# Altium footprint library Voltage Regulator.PcbLib: 34 footprints (part 1 of 3)
Each footprint in its own frame and in the unit in brackets; x right, y up, seen from the top. Pads: shape width x height; smd on the part's side, far side on the other; paste and mask are expansions set on the pad; w line width, h text height; cw(c..) or ccw(c..) is an arc to the next point about the centre after c.
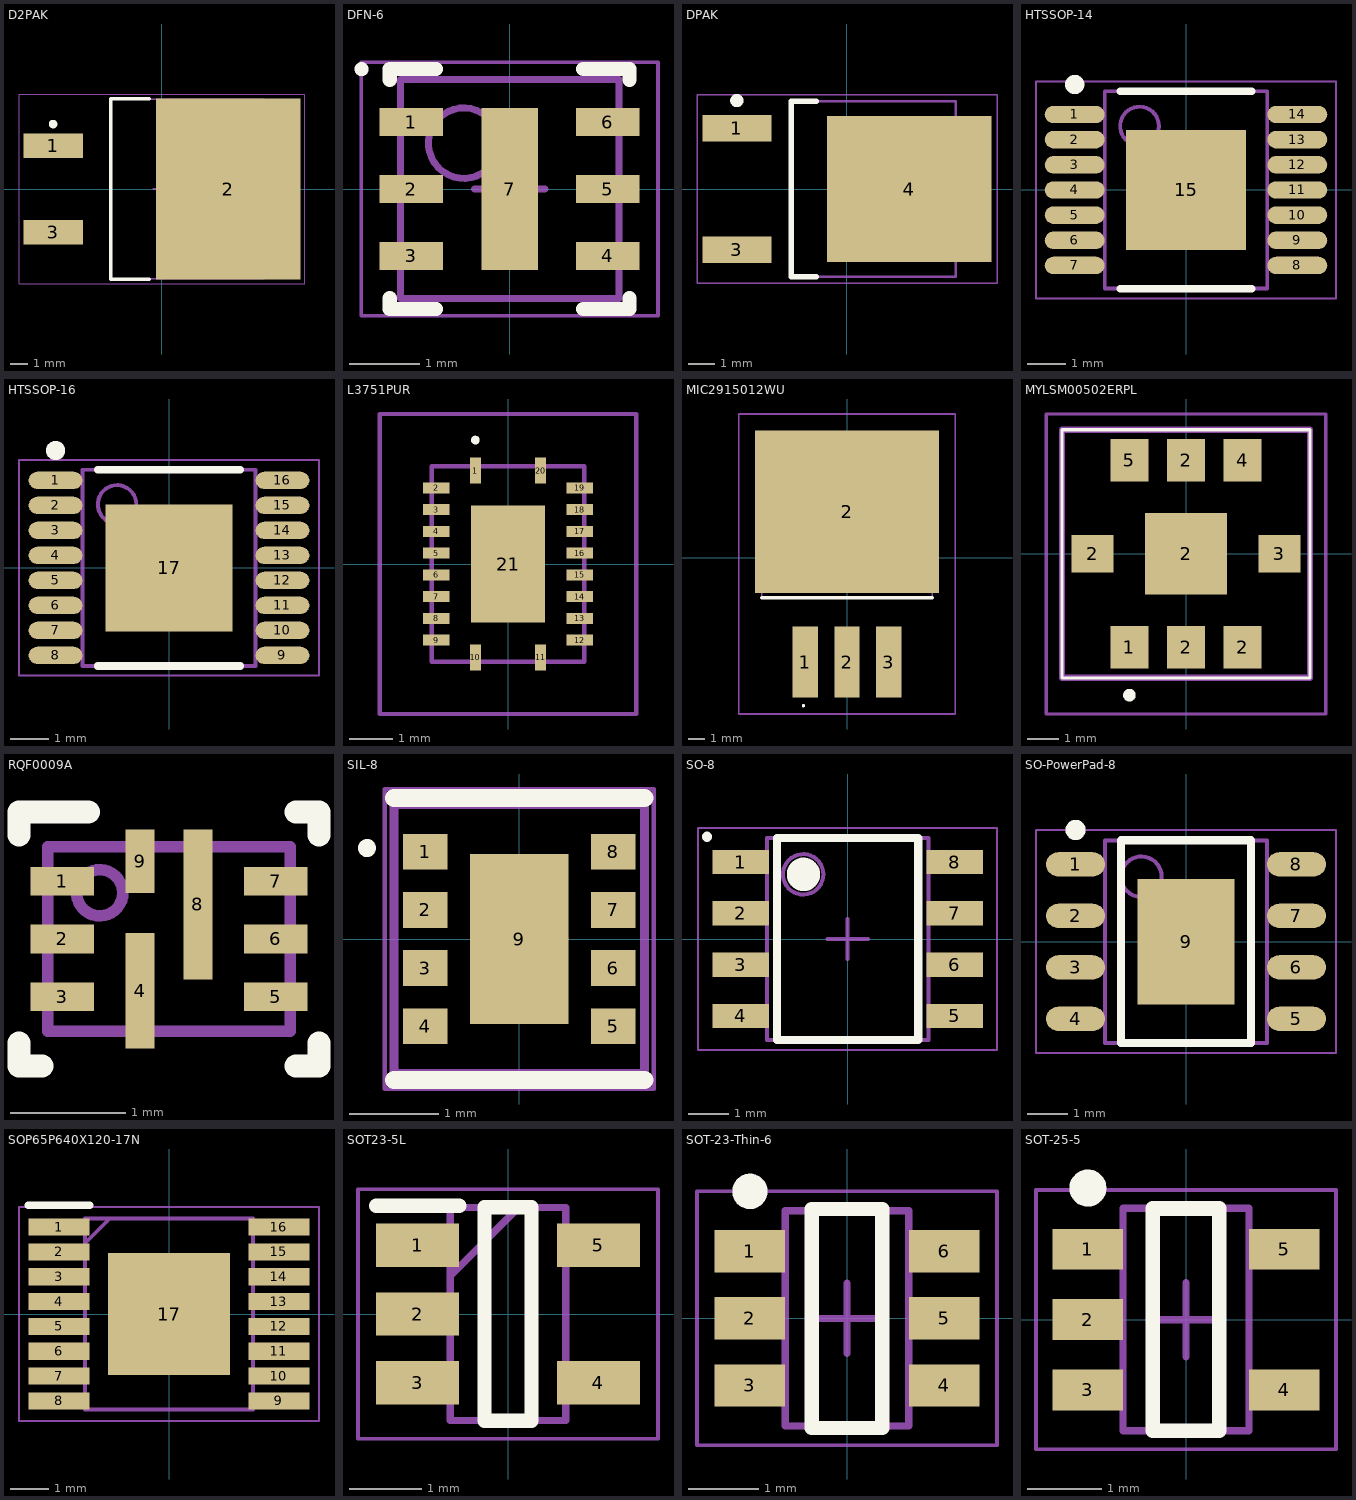
[diagram p0: the footprints below, top view; thin cyan lines are the x and y axes]

## D2PAK [mm] "D2-PAK, 3-Pads, Body 7,60x8,64mm (max), IPC Medium Density"
height 4.56
pads (3):
  rect 3.5x1.45 smd: 1(-6.4,2.54) 3(-6.4,-2.54)
  rect 8.5x10.65 smd: 2(3.9,0)
Top Overlay:
  circle w0.25: c-6.4,3.815 r0.125
  lines w0.2: -0.75,-5.3 -3,-5.3 -3,5.3 -0.75,5.3
Mechanical 13:
  lines w0.1: -3,-5.275 6,-5.275 6,5.275 -3,5.275 -3,-5.275
Mechanical 15:
  lines w0.05: -8.4,-5.575 8.4,-5.575 8.4,5.575 -8.4,5.575 -8.4,-5.575
  lines w0.1: -0.5,0 0.5,0 ; 0,-0.5 0,0.5
3D body "DPAK254P1530X456-3N.step": height 4.81, standoff 0, extent -7.406,-5.275 7.894,5.275

## DFN-6 [mm] "SON, 6-Leads, Body 3,00x3,00mm, Pitch 0,95mm, Thermal Pad 2,37x1,49mm, IPC Medium Density"
height 1
pads (7):
  rect 0.9x0.4 smd: 1(-1.395,0.95) 2(-1.395,0) 3(-1.395,-0.95) 4(1.395,-0.95) 5(1.395,0) 6(1.395,0.95)
  rect 0.8x2.3 smd: 7(0,0)
Top Overlay:
  circle w0.1: c-2.1,1.7 r0.05
  lines w0.2: -1.7,-1.55 -1.7,-1.7 -1.045,-1.7 ; -1.7,1.55 -1.7,1.7 -1.045,1.7 ; 1.045,-1.7 1.7,-1.7 1.7,-1.55 ; 1.045,1.7 1.7,1.7 1.7,1.55
Mechanical 13:
  circle w0.1: c-0.65,0.65 r0.5
  lines w0.1: -1.55,-1.55 1.55,-1.55 1.55,1.55 -1.55,1.55 -1.55,-1.55
Mechanical 15:
  lines w0.05: -2.105,-1.8 2.105,-1.8 2.105,1.8 -2.105,1.8 -2.105,-1.8
  lines w0.1: -0.5,0 0.5,0 ; 0,-0.5 0,0.5
3D body "SON95P300X100_HS-7N.step": height 1, standoff 0, extent -1.6,-1.55 1.6,1.55

## DPAK [mm] "D-PAK, 3-Pads, Body 6,20x6,66mm (max), IPC Medium Density"
height 2.4
pads (3):
  rect 2.6x1 smd: 1(-4.15,2.28) 3(-4.15,-2.28)
  rect 6.2x5.5 smd: 4(2.35,0)
Top Overlay:
  circle w0.25: c-4.15,3.33 r0.125
  lines w0.2: -1.15,-3.3 -2.1,-3.3 -2.1,3.3 -1.15,3.3
Mechanical 13:
  lines w0.1: -2.1,-3.3 -2.1,3.3 4.1,3.3 4.1,-3.3 -2.1,-3.3
Mechanical 15:
  lines w0.05: -5.65,-3.55 -5.65,3.55 5.65,3.55 5.65,-3.55 -5.65,-3.55
  lines w0.1: -0.5,0 0.5,0 ; 0,-0.5 0,0.5
3D body "DPAK228P972X240-3N.step": height 2.63, standoff 0, extent -4.225,-3.3 5.5,3.3

## HTSSOP-14 [mm] "TSOP, 14-Leads, Body 5,00x4,16mm, Pitch 0,65mm, Thermal Pad 3,10x3,10mm, IPC Medium Density"
height 1.1
pads (15):
  oval 1.55x0.45 smd: 1(-2.875,1.95) 2(-2.875,1.3) 3(-2.875,0.65) 4(-2.875,0) 5(-2.875,-0.65) 6(-2.875,-1.3) 7(-2.875,-1.95) 8(2.875,-1.95) 9(2.875,-1.3) 10(2.875,-0.65) 11(2.875,0) 12(2.875,0.65) 13(2.875,1.3) 14(2.875,1.95)
  rect 3.1x3.1 smd: 15(0,0)
Top Overlay:
  circle w0.25: c-2.875,2.725 r0.125
  lines w0.2: -1.7,-2.55 1.7,-2.55 ; -1.7,2.55 1.7,2.55
Mechanical 13:
  circle w0.1: c-1.2,1.65 r0.5
  lines w0.1: -2.1,-2.55 2.1,-2.55 2.1,2.55 -2.1,2.55 -2.1,-2.55
Mechanical 15:
  lines w0.05: -3.875,-2.8 3.875,-2.8 3.875,2.8 -3.875,2.8 -3.875,-2.8
  lines w0.1: -0.5,0 0.5,0 ; 0,-0.5 0,0.5
3D body "TSOP65P640X110_HS-15N.step": height 1.1, standoff 0, extent -3.2,-2.55 3.2,2.55

## HTSSOP-16 [mm] "TSOP, 16-Leads, Body 5,00x4,40mm, Pitch 0,65mm, Thermal Pad 3,30x3,30mm, IPC Medium Density"
height 1.2
pads (17):
  oval 1.4x0.45 smd: 1(-2.95,2.275) 2(-2.95,1.625) 3(-2.95,0.975) 4(-2.95,0.325) 5(-2.95,-0.325) 6(-2.95,-0.975) 7(-2.95,-1.625) 8(-2.95,-2.275) 9(2.95,-2.275) 10(2.95,-1.625) 11(2.95,-0.975) 12(2.95,-0.325) 13(2.95,0.325) 14(2.95,0.975) 15(2.95,1.625) 16(2.95,2.275)
  rect 3.3x3.3 smd: 17(0,0)
Top Overlay:
  circle w0.25: c-2.95,3.05 r0.125
  lines w0.2: -1.85,-2.55 1.85,-2.55 ; -1.85,2.55 1.85,2.55
Mechanical 13:
  circle w0.1: c-1.35,1.65 r0.5
  lines w0.1: -2.25,-2.55 2.25,-2.55 2.25,2.55 -2.25,2.55 -2.25,-2.55
Mechanical 15:
  lines w0.05: -3.9,-2.8 3.9,-2.8 3.9,2.8 -3.9,2.8 -3.9,-2.8
  lines w0.1: -0.5,0 0.5,0 ; 0,-0.5 0,0.5
3D body "TSOP65P640X120_HS-17N.step": height 1.2, standoff 0, extent -3.2,-2.55 3.2,2.55

## L3751PUR [mm]
pads (21):
  rect 0.25x0.6 smd: 1(-0.75,2.15) 10(-0.75,-2.15) 11(0.75,-2.15) 20(0.75,2.15)
  rect 0.6x0.25 smd: 2(-1.65,1.75) 3(-1.65,1.25) 4(-1.65,0.75) 5(-1.65,0.25) 6(-1.65,-0.25) 7(-1.65,-0.75) 8(-1.65,-1.25) 9(-1.65,-1.75) 12(1.65,-1.75) 13(1.65,-1.25) 14(1.65,-0.75) 15(1.65,-0.25) 16(1.65,0.25) 17(1.65,0.75) 18(1.65,1.25) 19(1.65,1.75)
  rect 1.7x2.7 smd: 21(0,0)
Top Overlay:
  lines w0.1: -0.75,2.8 ccw(c-0.75,2.85) -0.75,2.9 ccw(c-0.75,2.85) -0.75,2.8
Mechanical 13:
  lines w0.1: -1.75,-2.25 -1.75,2.25 1.75,2.25 1.75,-2.25 -1.75,-2.25
Mechanical 15:
  lines w0.1: -2.95,-3.45 -2.95,3.45 2.95,3.45 2.95,-3.45 -2.95,-3.45
3D body "L3751PUR.stp": height 1.1, standoff 0, extent -1.75,-2.25 1.75,2.25

## MIC2915012WU [mil]
pads (4):
  rect 60x170 smd: 1(-100,-249.76) 2(0,-249.76) 3(100,-249.76)
  rect 440x390 smd: 2(0,110.24)
Top Overlay:
  lines w3.94: -106.3,-354.33 ccw(c-104.33,-354.33) -102.36,-354.33 ccw(c-104.33,-354.33) -106.3,-354.33
  lines w7.87: -203.98,-95.75 203.98,-95.75
Mechanical 13:
  lines w3.94: -203.98,-95.75 -203.98,249.76 203.98,249.76 203.98,-95.75 -203.98,-95.75
Mechanical 15:
  lines w3.94: -259.37,-374.13 -259.37,344.61 259.37,344.61 259.37,-374.13 -259.37,-374.13

## MYLSM00502ERPL [mm]
pads (9):
  rect 1.2x1.35 smd: 1(-1.8,-2.975) 2(0,-2.975) 2(0,2.975) 2(1.8,-2.975) 4(1.8,2.975) 5(-1.8,2.975)
  rect 1.35x1.2 smd: 2(-2.975,0) 3(2.975,0)
  rect 2.6x2.6 smd: 2(0,0)
Top Overlay:
  lines w0.1: -3.95,-3.95 -3.95,3.95 3.95,3.95 3.95,-3.95 -3.95,-3.95
  lines w0.2: -1.9,-4.5 cw(c-1.8,-4.5) -1.7,-4.5 cw(c-1.8,-4.5) -1.9,-4.5
Mechanical 13:
  lines w0.2: -3.95,-3.95 -3.95,3.95 3.95,3.95 3.95,-3.95 -3.95,-3.95
Mechanical 15:
  lines w0.1: -4.45,-5.1 -4.45,4.45 4.45,4.45 4.45,-5.1 -4.45,-5.1
3D body "MYLSM00502ERPL.stp": height 2.4, standoff 0, extent -3.95,-3.95 3.95,3.95

## RQF0009A [mm]
pads (9):
  rect 0.55x0.25 smd paste+0 mask+0.051: 1(480.71,-424.569) 2(480.71,-425.069) 3(480.71,-425.569) 5(482.56,-425.569) 6(482.56,-425.069) 7(482.56,-424.569)
  rect 0.25x1 smd paste+0 mask+0.051: 4(481.385,-425.519)
  rect 0.25x1.3 smd paste+0 mask+0.051: 8(481.885,-424.769)
  rect 0.25x0.55 smd paste+0 mask+0.051: 9(481.385,-424.394)
Top Overlay:
  lines w0.2: 480.335,-425.969 480.335,-426.169 480.535,-426.169 ; 480.335,-424.169 480.335,-423.969 480.935,-423.969 ; 482.735,-426.169 482.935,-426.169 482.935,-425.969 ; 482.735,-423.969 482.935,-423.969 482.935,-424.169
Mechanical 13:
  circle w0.1: c481.035,-424.669 r0.2
  lines w0.1: 480.585,-425.869 480.585,-424.269 482.685,-424.269 482.685,-425.869 480.585,-425.869
3D body "RQF0009A.stp": height 1, standoff 0, extent 480.635,-425.819 482.635,-424.319

## SIL-8 [mm]
pads (9):
  rect 0.5x0.4 smd: 1(-1.05,0.975) 2(-1.05,0.325) 3(-1.05,-0.325) 4(-1.05,-0.975) 5(1.05,-0.975) 6(1.05,-0.325) 7(1.05,0.325) 8(1.05,0.975)
  rect 1.1x1.9 smd: 9(0,0)
Top Overlay:
  circle w0.1: c-1.7,1.016 r0.05
  lines w0.2: -1.4,-1.575 1.4,-1.575 ; -1.4,1.575 1.4,1.575
Mechanical 13:
  lines w0.1: -1.4,-1.5 -1.4,1.5 1.4,1.5 1.4,-1.5 -1.4,-1.5
Mechanical 15:
  lines w0.05: -1.5,-1.675 -1.5,1.675 1.5,1.675 1.5,-1.675 -1.5,-1.675
  lines w0.1: -0.5,0 0.5,0 ; 0,-0.5 0,0.5
3D body: height 1.53, standoff 0, extent -1.4,-1.5 1.4,1.5

## SO-8 [mm] "Regulator"
height 1.75
pads (8):
  rect 1.4x0.6 smd: 1(-2.65,1.905) 2(-2.65,0.635) 3(-2.65,-0.635) 4(-2.65,-1.905) 5(2.65,-1.905) 6(2.65,-0.635) 7(2.65,0.635) 8(2.65,1.905)
Top Overlay:
  circle w0.6: c-1.092,1.6 r0.114
  lines w0.2: -1.75,-2.5 1.75,-2.5 1.75,2.5 -1.75,2.5 -1.75,-2.5
  lines w0.25: -3.48,2.529 ccw(c-3.605,2.54) -3.48,2.54
Mechanical 13:
  circle w0.1: c-1.1,1.6 r0.5
  lines w0.1: -2,-2.5 2,-2.5 2,2.5 -2,2.5 -2,-2.5
Mechanical 15:
  lines w0.05: -3.7,-2.75 3.7,-2.75 3.7,2.75 -3.7,2.75 -3.7,-2.75
  lines w0.1: -0.5,0 0.5,0 ; 0,-0.5 0,0.5
3D body "SOIC127P600X175-8N.step": height 1.75, standoff 0, extent -3,-2.5 3,2.5

## SO-PowerPad-8 [mm] "SOIC, 8-Leads, Body 4,90x3,90mm, Pitch 1,27mm, Thermal Pad 3,10x2,40mm, IPC Medium Density"
height 1.7
pads (9):
  oval 1.45x0.6 smd: 1(-2.725,1.905) 2(-2.725,0.635) 3(-2.725,-0.635) 4(-2.725,-1.905) 5(2.725,-1.905) 6(2.725,-0.635) 7(2.725,0.635) 8(2.725,1.905)
  rect 2.4x3.1 smd: 9(0,0)
Top Overlay:
  circle w0.25: c-2.725,2.755 r0.125
  lines w0.2: -1.6,-2.5 1.6,-2.5 1.6,2.5 -1.6,2.5 -1.6,-2.5
Mechanical 13:
  circle w0.1: c-1.1,1.6 r0.5
  lines w0.1: -2,-2.5 2,-2.5 2,2.5 -2,2.5 -2,-2.5
Mechanical 15:
  lines w0.05: -3.7,-2.75 -3.7,2.75 3.7,2.75 3.7,-2.75 -3.7,-2.75
  lines w0.1: -0.5,0 0.5,0 ; 0,-0.5 0,0.5
3D body "SOIC127P600X170_HS-9N.step": height 1.7, standoff 0, extent -3,-2.5 3,2.5

## SOP65P640X120-17N [mm]
pads (17):
  rect 1.6x0.45 smd: 1(-2.875,2.275) 2(-2.875,1.625) 3(-2.875,0.975) 4(-2.875,0.325) 5(-2.875,-0.325) 6(-2.875,-0.975) 7(-2.875,-1.625) 8(-2.875,-2.275) 9(2.875,-2.275) 10(2.875,-1.625) 11(2.875,-0.975) 12(2.875,-0.325) 13(2.875,0.325) 14(2.875,0.975) 15(2.875,1.625) 16(2.875,2.275)
  rect 3.2x3.2 smd: 17(0,0)
Top Overlay:
  lines w0.2: -3.675,2.85 -2.075,2.85
Mechanical 13:
  lines w0.1: -2.2,1.85 -1.55,2.5 ; -2.2,-2.5 -2.2,2.5 2.2,2.5 2.2,-2.5 -2.2,-2.5
Mechanical 15:
  lines w0.05: -3.925,-2.8 -3.925,2.8 3.925,2.8 3.925,-2.8 -3.925,-2.8
3D body "L7987LTR.stp": height 1.2, standoff 0, extent -3.2,-2.5 3.2,2.5

## SOT23-5L [mm]
pads (5):
  rect 1.15x0.6 smd: 1(-1.25,0.95) 2(-1.25,0) 3(-1.25,-0.95) 4(1.25,-0.95) 5(1.25,0.95)
Top Overlay:
  lines w0.2: -1.825,1.5 -0.675,1.5 ; -0.325,-1.475 0.325,-1.475 0.325,1.475 -0.325,1.475 -0.325,-1.475
Mechanical 13:
  lines w0.1: -0.8,0.525 0.15,1.475 ; -0.8,-1.475 0.8,-1.475 0.8,1.475 -0.8,1.475 -0.8,-1.475
Mechanical 15:
  lines w0.05: -2.075,-1.725 2.075,-1.725 2.075,1.725 -2.075,1.725 -2.075,-1.725
3D body "ST730MR.stp": height 1.45, standoff 0, extent -1.4,-1.475 1.4,1.475

## SOT-23-Thin-6 [mm] "SOT23, 6-Leads, Body 2,90x2,80mm, Pitch 0,95mm, IPC Medium Density"
height 1.1
pads (6):
  rect 1x0.6 smd: 1(-1.375,0.95) 2(-1.375,0) 3(-1.375,-0.95) 4(1.375,-0.95) 5(1.375,0) 6(1.375,0.95)
Top Overlay:
  circle w0.25: c-1.375,1.8 r0.125
  lines w0.2: -0.5,-1.55 0.5,-1.55 0.5,1.55 -0.5,1.55 -0.5,-1.55
Mechanical 13:
  lines w0.1: -0.875,-1.525 -0.875,1.525 0.875,1.525 0.875,-1.525 -0.875,-1.525
Mechanical 15:
  lines w0.05: -2.125,-1.8 -2.125,1.8 2.125,1.8 2.125,-1.8 -2.125,-1.8
  lines w0.1: -0.5,0 0.5,0 ; 0,-0.5 0,0.5
3D body "SOT95P280X110-6N.step": height 1.1, standoff 0, extent -1.525,-1.525 1.525,1.525

## SOT-25-5 [mm] "SOT23, 5-Leads, Body 2,95x2,75mm, Pitch 0,95mm, IPC Medium Density"
height 1
pads (5):
  rect 0.95x0.55 smd: 1(-1.325,0.95) 2(-1.325,0) 3(-1.325,-0.95) 4(1.325,-0.95) 5(1.325,0.95)
Top Overlay:
  circle w0.25: c-1.325,1.775 r0.125
  lines w0.2: -0.45,-1.5 -0.45,1.5 0.45,1.5 0.45,-1.5 -0.45,-1.5
Mechanical 13:
  lines w0.1: -0.85,-1.5 0.85,-1.5 0.85,1.5 -0.85,1.5 -0.85,-1.5
Mechanical 15:
  lines w0.05: -2.025,-1.75 2.025,-1.75 2.025,1.75 -2.025,1.75 -2.025,-1.75
  lines w0.1: -0.5,0 0.5,0 ; 0,-0.5 0,0.5
3D body "SOT95P275X100-5N.step": height 1, standoff 0, extent -1.4,-1.5 1.4,1.5